# Altium footprint library POWERS.PcbLib: 12 footprints
Each footprint in its own frame and in the unit in brackets; x right, y up, seen from the top. Pads: shape width x height; smd on the part's side, far side on the other; paste and mask are expansions set on the pad; w line width, h text height; cw(c..) or ccw(c..) is an arc to the next point about the centre after c.
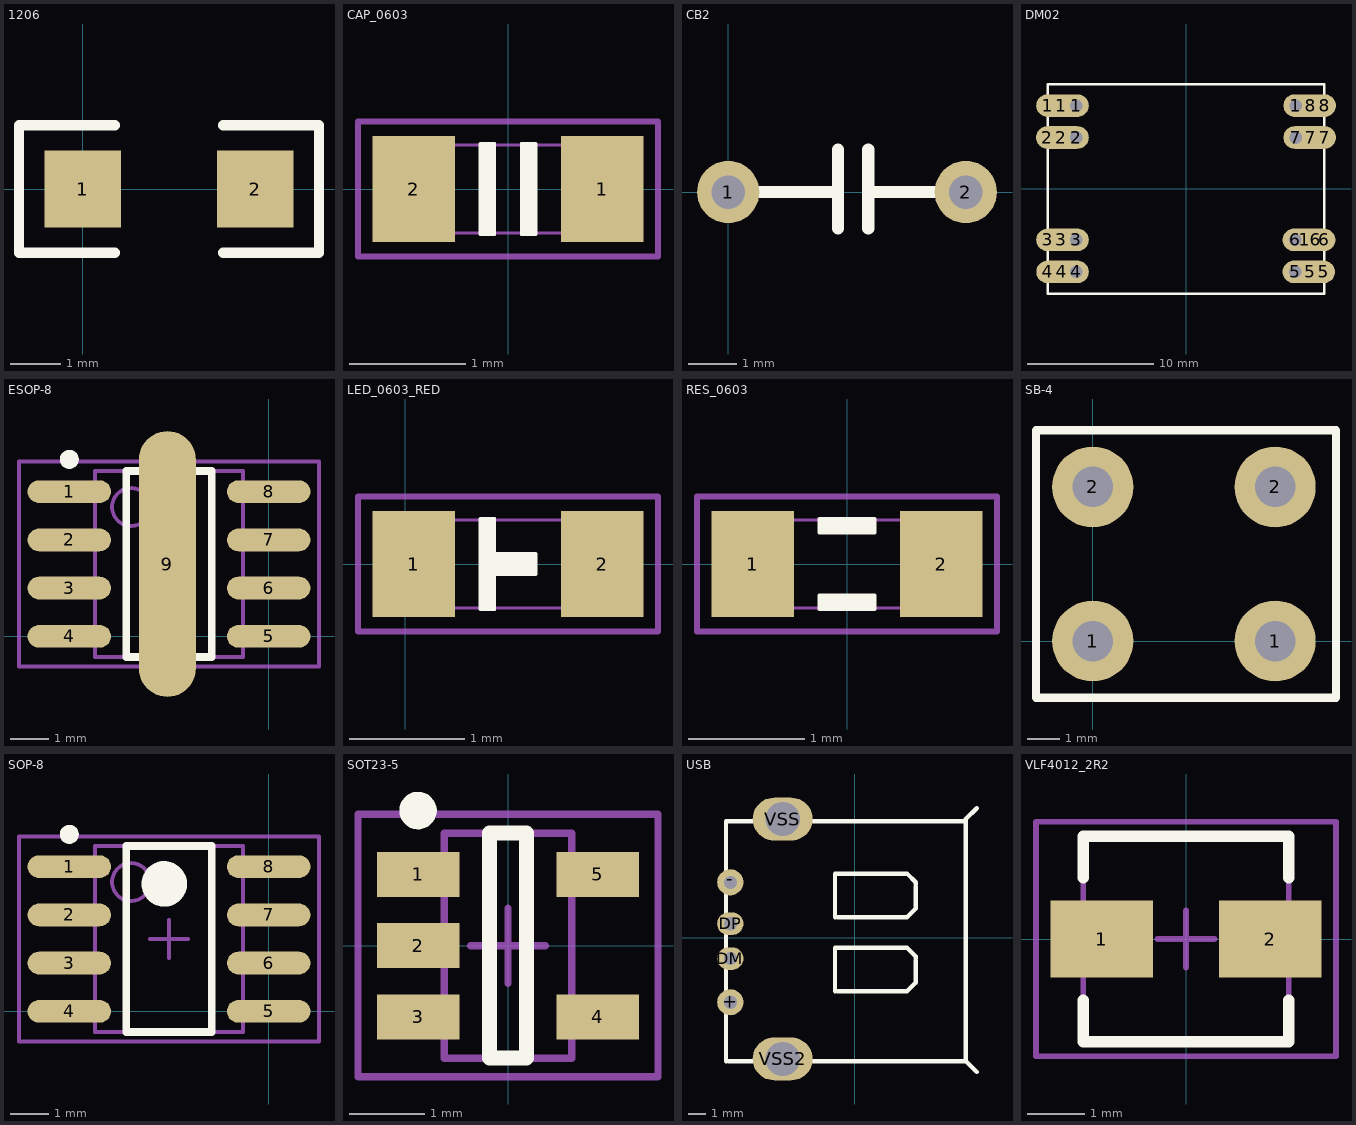
[diagram p0: the footprints below, top view; thin cyan lines are the x and y axes]

## 1206 [mil]
pads (2):
  rect 60x60 smd: 1(0,0) 2(135,0)
Top Overlay:
  lines w8: 25,-50 -50,-50 -50,50 25,50 ; 110,-50 185,-50 185,50 110,50

## CAP_0603 [mil]
height 31.5
pads (2):
  rect 28x36 smd: 1(32,0) 2(-32,0)
Top Overlay:
  region: 4.5,-15.5 9.5,-15.5 9.5,15.5 4.5,15.5
  region: -4.5,15.5 -9.5,15.5 -9.5,-15.5 -4.5,-15.5
  lines w1: -9.5,-15.5 -4.5,-15.5 -4.5,15.5 -9.5,15.5 -9.5,-15.5 ; 4.5,-15.5 9.5,-15.5 9.5,15.5 4.5,15.5 4.5,-15.5
Mechanical 13:
  lines w1: -19.01,-15 18.99,-15 ; -19,15 19,15 ; -33.01,-17 -19.01,-17 -19.01,17 -33.01,17 -33.01,-17 ; 19,-17 19,17 33,17 33,-17 19,-17
Mechanical 14:
  lines w2: -51,-23 51,-23 51,23 -51,23 -51,-23
3D body: height 36.22, standoff 0, extent -31.5,-15.75 31.49,15.74

## CB2 [mm]
pads (2):
  round 1.3 hole 0.7: 1(0,0) 2(4.953,0)
Top Overlay:
  lines w0.254: 0.635,0 1.27,0 2.286,0 ; 2.286,-0.762 2.286,0.889 ; 2.921,-0.762 2.921,0.889 ; 3.048,0 4.953,0

## DM02 [mm] "U?"
pads (24):
  round 1.8 smd: 1(-11.014,6.613) 2(-11.033,4.073) 3(-11.014,-4.073) 4(-11.013,-6.613) 5(10.959,-6.613) 6(10.982,-4.073) 7(11.033,4.073) 8(11.033,6.613)
  rect 2.2x1.8 smd: 1(-9.923,6.613) 2(-9.923,4.073) 3(-9.922,-4.073) 4(-9.897,-6.613) 5(9.867,-6.613) 7(9.937,4.073) 8(9.937,6.613) 16(9.867,-4.073)
  oval 2x1.8 hole 1: 1(-8.732,6.613) 1(8.748,6.613) 2(-8.732,4.073) 3(-8.731,-4.073) 4(-8.731,-6.613) 5(8.678,-6.613) 6(8.678,-4.073) 7(8.748,4.073)
Top Layer:
  lines w0.4: 8.748,4.113 9.389,3.471
Top Overlay:
  lines w0.2: 10.983,8.327 -11.014,8.327 -11.014,-8.373 10.986,-8.373 10.986,8.327

## ESOP-8 [mm] "SOP, 8-Leads, Body 4.9x3.9mm (max), Pitch 1.27mm, IPC Medium Density"
height 1.75
pads (9):
  oval 2.2x0.6 smd: 1(-5.25,3.81) 2(-5.25,2.54) 3(-5.25,1.27) 4(-5.25,0) 5(0,0) 6(0,1.27) 7(0,2.54) 8(0,3.81)
  oval 1.5x7 smd: 9(-2.667,1.905)
Top Overlay:
  circle w0.6: c-2.75,3.355 r0.3
  circle w0.25: c-5.25,4.66 r0.125
  lines w0.2: -3.75,-0.545 -1.5,-0.545 -1.5,4.355 -3.75,4.355 -3.75,-0.545
Mechanical 13:
  circle w0.1: c-3.625,3.405 r0.5
  lines w0.1: -4.575,-0.545 -0.675,-0.545 -0.675,4.355 -4.575,4.355 -4.575,-0.545
Mechanical 15:
  lines w0.1: -3.125,1.905 -2.125,1.905 ; -2.625,1.405 -2.625,2.405 ; -6.575,-0.795 1.325,-0.795 1.325,4.605 -6.575,4.605 -6.575,-0.795
3D body: height 1.75, standoff 0.1, extent -4.575,-0.545 -0.675,4.355

## LED_0603_RED [mil]
pads (2):
  rect 28x36 smd: 1(3,0) 2(67,0)
Top Overlay:
  region: 25.5,15.5 30.5,15.5 30.5,3.5 44.5,3.5 44.5,-3.5 30.5,-3.5 30.5,-15.5 25.5,-15.5
  lines w1: 25.5,-15.5 25.5,15.5 30.5,15.5 30.5,3.5 44.5,3.5 44.5,-3.5 30.5,-3.5 30.5,-15.5 25.5,-15.5
Mechanical 13:
  lines w1: 16,-15 54,-15 ; 16.01,15 54.01,15 ; 2,-17 16,-17 16,17 2,17 2,-17 ; 54.01,-17 54.01,17 68.01,17 68.01,-17 54.01,-17
Mechanical 14:
  lines w2: -16,-23 -16,23 86,23 86,-23 -16,-23
3D body: height 23.62, standoff 0, extent 3.12,-15.74 66.9,15.76

## RES_0603 [mil]
height 31.5
pads (2):
  rect 28x36 smd: 1(-32,0) 2(32,0)
Top Overlay:
  region: -9.5,15.5 9.5,15.5 9.5,10.5 -9.5,10.5
  region: 9.5,-15.5 -9.5,-15.5 -9.5,-10.5 9.5,-10.5
  lines w1: -9.5,-15.5 9.5,-15.5 9.5,-10.5 -9.5,-10.5 -9.5,-15.5 ; -9.5,10.5 -9.5,15.5 9.5,15.5 9.5,10.5 -9.5,10.5
Mechanical 13:
  lines w1: -19,-15 19,-15 ; -18.99,15 19.01,15 ; -33,-17 -19,-17 -19,17 -33,17 -33,-17 ; 19.01,-17 19.01,17 33.01,17 33.01,-17 19.01,-17
Mechanical 14:
  lines w2: -51,-23 -51,23 51,23 51,-23 -51,-23
3D body: height 19.68, standoff 0, extent -31.49,-15.74 31.51,15.75

## SB-4 [mil]
height 472.44
pads (4):
  round 100 hole 50: 1(0,0) 1(225,0) 2(0,190) 2(225,190)
Top Overlay:
  lines w10: -70,-70 300,-70 300,260 -70,260 -70,-70

## SOP-8 [mm] "SOP, 8-Leads, Body 4.9x3.9mm (max), Pitch 1.27mm, IPC Medium Density"
height 1.75
pads (8):
  oval 2.2x0.6 smd: 1(-5.25,3.81) 2(-5.25,2.54) 3(-5.25,1.27) 4(-5.25,0) 5(0,0) 6(0,1.27) 7(0,2.54) 8(0,3.81)
Top Overlay:
  circle w0.25: c-5.25,4.66 r0.125
  circle w0.6: c-2.75,3.355 r0.3
  lines w0.2: -3.75,-0.545 -3.75,4.355 -1.5,4.355 -1.5,-0.545 -3.75,-0.545
Mechanical 13:
  circle w0.1: c-3.625,3.405 r0.5
  lines w0.1: -4.575,-0.545 -4.575,4.355 -0.675,4.355 -0.675,-0.545 -4.575,-0.545
Mechanical 15:
  lines w0.1: -3.125,1.905 -2.125,1.905 ; -2.625,1.405 -2.625,2.405 ; -6.575,-0.795 -6.575,4.605 1.325,4.605 1.325,-0.795 -6.575,-0.795
3D body: height 1.75, standoff 0.1, extent -4.575,-0.545 -0.675,4.355

## SOT23-5 [mm] "SOT23, 5-Leads, Body 3.0x3.0mm (max), Pitch 0.95mm, IPC Medium Density"
height 1.1
pads (5):
  rect 1.1x0.6 smd: 1(-1.2,0.95) 2(-1.2,0) 3(-1.2,-0.95) 4(1.2,-0.95) 5(1.2,0.95)
Top Overlay:
  circle w0.25: c-1.2,1.8 r0.125
  lines w0.2: -0.25,-1.5 -0.25,1.5 0.25,1.5 0.25,-1.5 -0.25,-1.5
Mechanical 13:
  lines w0.1: -0.85,-1.5 0.85,-1.5 0.85,1.5 -0.85,1.5 -0.85,-1.5
Mechanical 15:
  lines w0.1: -0.5,0 0.5,0 ; 0,-0.5 0,0.5 ; -2,-1.75 2,-1.75 2,1.75 -2,1.75 -2,-1.75
3D body: height 1.1, standoff 0.05, extent -0.85,-1.5 0.85,1.5

## USB [mm]
pads (6):
  round 1.524 hole 0.762: +(-7.255,-3.757) -(-7.255,3.228)
  oval 1.524x1.324 hole 0.762: DM(-7.255,-1.217) DP(-7.255,0.815)
  oval 3.5x2.5 hole 2: VSS(-4.207,6.911) VSS2(-4.207,-7.059)
Top Overlay:
  lines w0.254: -7.509,-7.186 -7.509,6.784 6.461,6.784 ; -7.382,-7.186 6.461,-7.186 ; -1.159,-3.122 -1.159,-0.582 3.032,-0.582 3.54,-1.09 3.54,-1.217 ; -1.159,1.196 -1.159,3.736 3.032,3.736 3.54,3.228 3.54,3.101 ; -1.032,-3.122 3.032,-3.122 3.54,-2.614 3.54,-1.344 ; -1.032,1.196 3.032,1.196 3.54,1.704 3.54,2.974 ; 7.096,-7.821 6.461,-7.186 ; 7.096,7.546 6.461,6.911 6.461,6.784 ; 6.461,-7.186 6.461,6.784

## VLF4012_2R2 [mm] "Precision Wire Wound Inductor, 2-Leads, Body 3.6x3.6mm, IPC Medium Density"
height 4
pads (2):
  rect 1.8x1.35 smd: 1(-1.475,0) 2(1.475,0)
Top Overlay:
  lines w0.2: -1.8,-1.075 -1.8,-1.8 1.8,-1.8 1.8,-1.075 ; -1.8,1.075 -1.8,1.8 1.8,1.8 1.8,1.075
Mechanical 13:
  lines w0.1: -1.8,-1.8 -1.8,1.8 1.8,1.8 1.8,-1.8 -1.8,-1.8
Mechanical 15:
  lines w0.1: -0.5,0 0.5,0 ; 0,-0.5 0,0.5 ; -2.625,-2.05 -2.625,2.05 2.625,2.05 2.625,-2.05 -2.625,-2.05
3D body: height 4, standoff 0, extent -1.8,-1.8 1.8,1.8